# Altium schematic symbol library mountingHole.SchLib: 1 symbol
Pins are listed as number, name and electrical type; pins without a type are passive.

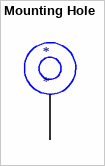
[diagram p0: symbol Mounting Hole]

## Mounting Hole
designator *
pins: 1 2